# Altium schematic symbol library Zener Diodes.SchLib: 4 symbols
Pins are listed as number, name and electrical type; pins without a type are passive.

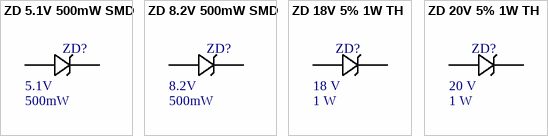
[diagram p0: symbols ZD 5.1V 500mW SMD to ZD 20V 5% 1W TH]

## ZD 5.1V 500mW SMD
designator ZD?  Voltage: 5.1V  Power: 500mW  (hidden comment: ZD 5.1V 500mW SMD)
footprint SOD123
pins: A, K

## ZD 8.2V 500mW SMD
designator ZD?  Voltage: 8.2V  Power: 500mW  (hidden comment: ZD 8.2V 500mW SMD)
footprint SOD123
pins: A, K

## ZD 18V 5% 1W TH
designator ZD?  Power: 1 W  Voltage: 18 V  (hidden comment: ZD 18V 5% 1W TH)
footprint DO-204AL (DO-41)
pins: A, K

## ZD 20V 5% 1W TH
designator ZD?  Power: 1 W  Voltage: 20 V  (hidden comment: ZD 20V 5% 1W TH)
footprint DO-204AL (DO-41)
pins: A, K